# Altium footprint library SamacSys.PcbLib: 4 footprints
Each footprint in its own frame and in the unit in brackets; x right, y up, seen from the top. Pads: shape width x height; smd on the part's side, far side on the other; paste and mask are expansions set on the pad; w line width, h text height; cw(c..) or ccw(c..) is an arc to the next point about the centre after c.
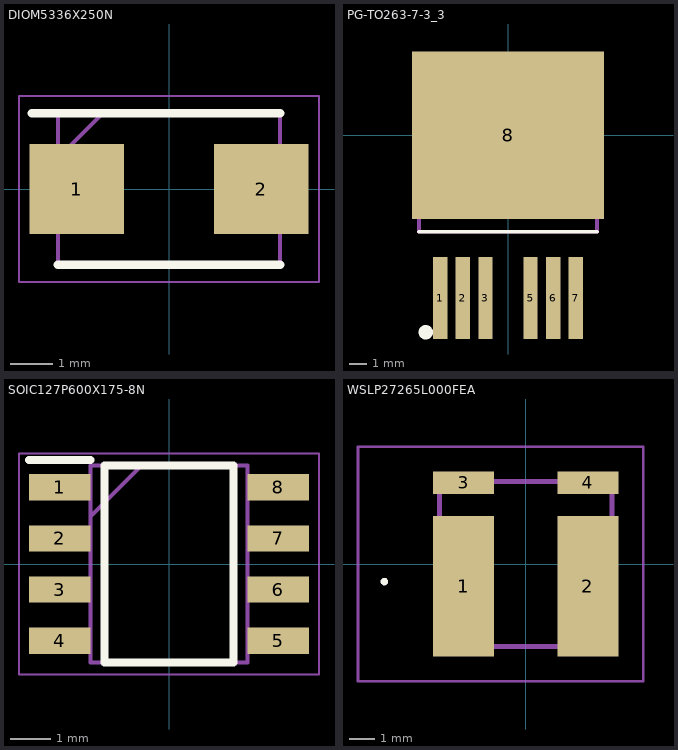
[diagram p0: the footprints below, top view; thin cyan lines are the x and y axes]

## DIOM5336X250N [mm]
pads (2):
  rect 2.25x2.15 smd: 1(-2.2,0) 2(2.2,0)
Top Overlay:
  lines w0.2: -3.275,1.81 2.648,1.81 ; -2.648,-1.81 2.648,-1.81
Mechanical 13:
  lines w0.1: -2.648,0.735 -1.572,1.81 ; -2.648,-1.81 -2.648,1.81 2.648,1.81 2.648,-1.81 -2.648,-1.81
Mechanical 15:
  lines w0.05: -3.575,-2.22 -3.575,2.22 3.575,2.22 3.575,-2.22 -3.575,-2.22
3D body "B280-13-F.stp": height 2.5, standoff 0, extent -2.648,-1.81 2.648,1.81

## PG-TO263-7-3_3 [mm]
pads (7):
  rect 0.8x4.6 smd: 1(-3.81,-9.15) 2(-2.54,-9.15) 3(-1.27,-9.15) 5(1.27,-9.15) 6(2.54,-9.15) 7(3.81,-9.15)
  rect 10.8x9.4 smd: 8(0,0)
Top Overlay:
  circle w0.4: c-4.616,-11.071 r0.204
  lines w0.2: -5,-5.425 5,-5.425
Mechanical 13:
  lines w0.2: -5,-5.425 -5,3.825 5,3.825 5,-5.425 -5,-5.425
3D body "IPB010N06N.stp": height 4.4, standoff 0, extent -5,-10.845 5,4.105

## SOIC127P600X175-8N [mm]
pads (8):
  rect 1.525x0.65 smd: 1(-2.712,1.905) 2(-2.712,0.635) 3(-2.712,-0.635) 4(-2.712,-1.905) 5(2.712,-1.905) 6(2.712,-0.635) 7(2.712,0.635) 8(2.712,1.905)
Top Overlay:
  lines w0.2: -3.475,2.58 -1.95,2.58 ; -1.6,-2.45 1.6,-2.45 1.6,2.45 -1.6,2.45 -1.6,-2.45
Mechanical 13:
  lines w0.1: -1.95,1.18 -0.68,2.45 ; -1.95,-2.45 1.95,-2.45 1.95,2.45 -1.95,2.45 -1.95,-2.45
Mechanical 15:
  lines w0.05: -3.725,-2.75 3.725,-2.75 3.725,2.75 -3.725,2.75 -3.725,-2.75
3D body "NE555DR.stp": height 1.75, standoff 0, extent -3,-2.45 3,2.45

## WSLP27265L000FEA [mm]
pads (4):
  rect 2.44x5.6 smd: 1(-2.48,-0.89) 2(2.48,-0.89)
  rect 2.44x0.89 smd: 3(-2.48,3.245) 4(2.48,3.245)
Top Overlay:
  lines w0.2: -5.7,-0.7 ccw(c-5.65,-0.7) -5.6,-0.7 ; -5.7,-0.7 cw(c-5.65,-0.7) -5.6,-0.7 ; -5.7,-0.7 ccw(c-5.65,-0.7) -5.6,-0.7
Mechanical 13:
  lines w0.2: -3.45,-3.3 -3.45,3.3 3.45,3.3 3.45,-3.3 -3.45,-3.3
Mechanical 15:
  lines w0.1: -6.7,-4.69 -6.7,4.69 4.7,4.69 4.7,-4.69 -6.7,-4.69
3D body "WSLP27265L000FEA.stp": height 2.79, standoff 0, extent -3.48,-2.99 3.42,3.61